# Altium schematic symbol library SN74LVC1G17DBVR.SchLib: 1 symbol
Pins are listed as number, name and electrical type; pins without a type are passive.

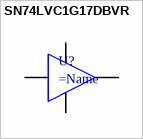
[diagram p0: symbol SN74LVC1G17DBVR]

## SN74LVC1G17DBVR
designator U?
pins: 2 A, 3 GND, 4 Y, 5 Vcc